# Altium footprint library PcbLib3.PcbLib: 58 footprints (part 3 of 4)
Each footprint in its own frame and in the unit in brackets; x right, y up, seen from the top. Pads: shape width x height; smd on the part's side, far side on the other; paste and mask are expansions set on the pad; w line width, h text height; cw(c..) or ccw(c..) is an arc to the next point about the centre after c.
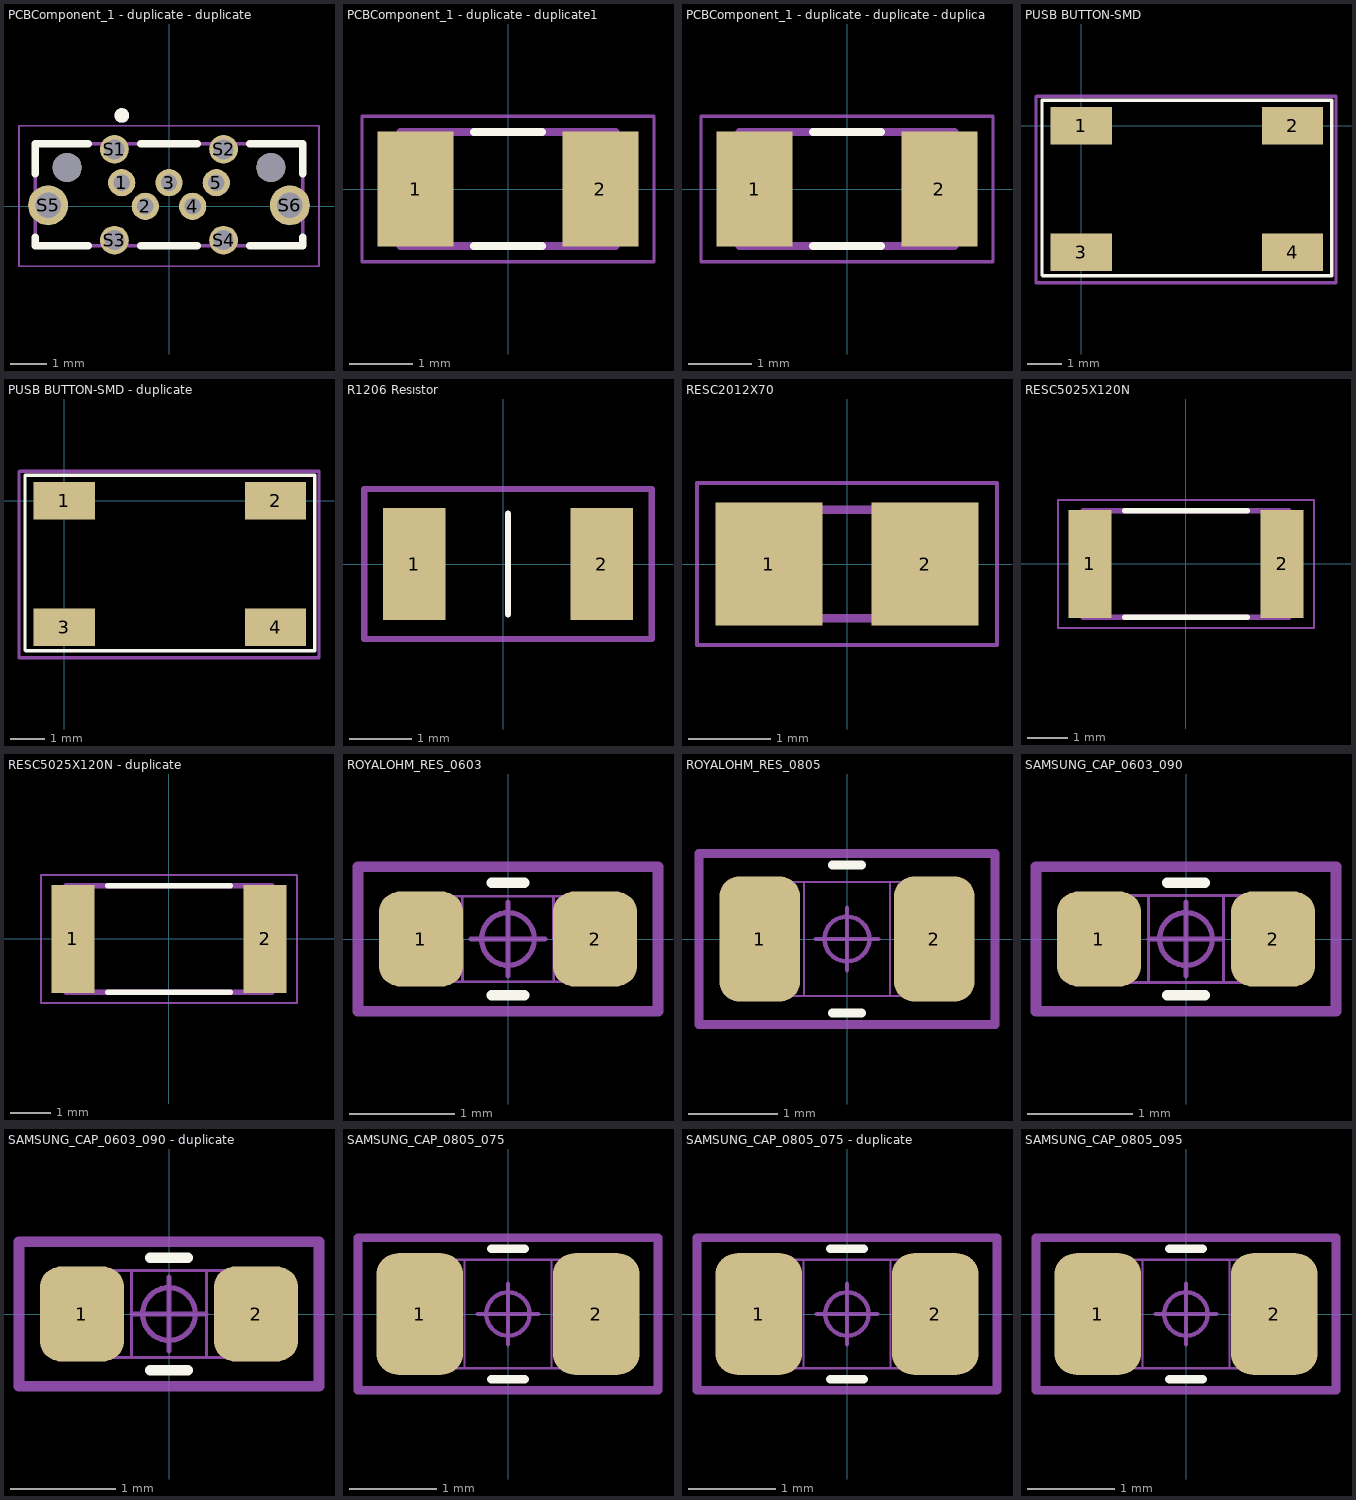
[diagram p2: the footprints below, top view; thin cyan lines are the x and y axes]

## PCBComponent_1 - duplicate - duplicate [mm]
pads (13):
  round 0.75 hole 0.45: 1(-1.3,0.65) 2(-0.65,0) 3(0,0.65) 4(0.65,0) 5(1.3,0.65)
  round 0.79 hole 0.55: S1(-1.5,1.57) S2(1.5,1.57) S3(-1.5,-0.93) S4(1.5,-0.93)
  round 1.1 hole 0.7: S5(-3.325,0.03) S6(3.325,0.03)
  round 0.8 hole 0.8 unplated: ""(-2.8,1.07) ""(2.8,1.07)
Top Overlay:
  circle w0.2: c-1.3,2.5 r0.1
  lines w0.2: -3.675,-0.84 -3.675,-1.08 -2.215,-1.08 ; -3.675,0.9 -3.675,1.72 -2.215,1.72 ; -0.785,-1.08 0.785,-1.08 ; -0.785,1.72 0.785,1.72 ; 2.215,-1.08 3.675,-1.08 3.675,-0.84 ; 2.215,1.72 3.675,1.72 3.675,0.9
Mechanical 13:
  circle w0.2: c-1.3,2.5 r0.1
  lines w0.1: -3.675,-1.08 -3.675,1.72 3.675,1.72 3.675,-1.08 -3.675,-1.08
Mechanical 15:
  lines w0.05: -4.125,-1.645 4.125,-1.645 4.125,2.215 -4.125,2.215 -4.125,-1.645
3D body "step_temp.STEP": height 7.23, standoff -1.3, extent -3.675,-1.4 3.675,1.4

## PCBComponent_1 - duplicate - duplicate1 [mm]
pads (2):
  rect 1.2x1.82 smd: 1(-1.46,0) 2(1.46,0)
Top Overlay:
  lines w0.127: -0.54,-0.9 0.54,-0.9 ; -0.54,0.9 0.54,0.9
Mechanical 13:
  lines w0.127: -1.7,-0.9 1.7,-0.9 1.7,0.9 -1.7,0.9 -1.7,-0.9
Mechanical 15:
  lines w0.05: -2.308,-1.15 2.308,-1.15 2.308,1.15 -2.308,1.15 -2.308,-1.15
3D body "step_temp.STEP": height 1.8, standoff 0, extent -1.6,-0.8 1.6,0.8

## PCBComponent_1 - duplicate - duplicate - duplicate [mm]
pads (2):
  rect 1.2x1.82 smd: 1(-1.46,0) 2(1.46,0)
Top Overlay:
  lines w0.127: -0.54,-0.9 0.54,-0.9 ; -0.54,0.9 0.54,0.9
Mechanical 13:
  lines w0.127: -1.7,-0.9 1.7,-0.9 1.7,0.9 -1.7,0.9 -1.7,-0.9
Mechanical 15:
  lines w0.05: -2.308,-1.15 2.308,-1.15 2.308,1.15 -2.308,1.15 -2.308,-1.15
3D body "step_temp.STEP": height 1.8, standoff 0, extent -1.6,-0.8 1.6,0.8

## PUSB BUTTON-SMD [mm]
pads (4):
  rect 1.8x1.1 smd mask+0.05: 1(0,0) 2(6.2,0) 3(0,-3.7) 4(6.2,-3.7)
Top Overlay:
  lines w0.1: -1.15,-4.375 -1.15,0.75 7.35,0.75 7.35,-4.4 -1.125,-4.4
Top Component Center:
  lines w0.1: -1.325,-4.6 7.475,-4.6 7.475,0.875 -1.3,0.875 -1.325,0.85 -1.325,-4.6
3D body "User Library-4x4_SMD_Switch.step": height 1.5, standoff 0, extent -0.2,-4.5 6.2,0.7

## PUSB BUTTON-SMD - duplicate [mm]
pads (4):
  rect 1.8x1.1 smd mask+0.05: 1(0,0) 2(6.2,0) 3(0,-3.7) 4(6.2,-3.7)
Top Overlay:
  lines w0.1: -1.15,-4.375 -1.15,0.75 7.35,0.75 7.35,-4.4 -1.125,-4.4
Top Component Center:
  lines w0.1: -1.325,-4.6 7.475,-4.6 7.475,0.875 -1.3,0.875 -1.325,0.85 -1.325,-4.6
3D body "User Library-4x4_SMD_Switch.step": height 1.5, standoff 0, extent -0.2,-4.5 6.2,0.7

## R1206 Resıstor [mm]
pads (2):
  rect 1x1.8 smd mask+0.05: 1(-1.425,0) 2(1.575,0)
Top Overlay:
  lines w0.1: 0.075,-0.805 0.075,0.805
Top Component Center:
  lines w0.1: -2.225,-1.2 -2.225,1.2 2.375,1.2 2.375,-1.2 -2.225,-1.2
3D body "1206RES.step": height 0.55, standoff 0, extent -1.525,-0.805 1.675,0.805

## RESC2012X70 [mm]
pads (2):
  rect 1.3x1.5 smd: 1(-0.95,0) 2(0.95,0)
Mechanical 13:
  lines w0.102: -0.381,0.66 0.381,0.66 ; -0.356,-0.66 0.381,-0.66
Mechanical 15:
  lines w0.051: -1.823,-0.983 1.823,-0.983 1.823,0.983 -1.823,0.983 -1.823,-0.983
3D body "step_temp.STEP": height 0.5, standoff 0, extent -0.625,-1 0.625,1

## RESC5025X120N [mm]
pads (2):
  rect 1.07x2.67 smd: 1(-2.38,0) 2(2.38,0)
Top Overlay:
  lines w0.127: -1.52,-1.32 1.52,-1.32 ; -1.52,1.32 1.52,1.32
Mechanical 13:
  lines w0.127: -2.55,-1.32 -2.55,1.32 2.55,1.32 2.55,-1.32 -2.55,-1.32
Mechanical 15:
  lines w0.05: -3.165,-1.585 -3.165,1.585 3.165,1.585 3.165,-1.585 -3.165,-1.585
3D body "step_temp.STEP": height 1.2, standoff 0, extent -2.5,-1.25 2.5,1.25

## RESC5025X120N - duplicate [mm]
pads (2):
  rect 1.07x2.67 smd: 1(-2.38,0) 2(2.38,0)
Top Overlay:
  lines w0.127: -1.52,-1.32 1.52,-1.32 ; -1.52,1.32 1.52,1.32
Mechanical 13:
  lines w0.127: -2.55,-1.32 -2.55,1.32 2.55,1.32 2.55,-1.32 -2.55,-1.32
Mechanical 15:
  lines w0.05: -3.165,-1.585 -3.165,1.585 3.165,1.585 3.165,-1.585 -3.165,-1.585
3D body "step_temp.STEP": height 1.2, standoff 0, extent -2.5,-1.25 2.5,1.25

## ROYALOHM_RES_0603 [mm]
pads (2):
  rrect50% 0.8x0.9 smd paste+0 mask+0.04: 1(-0.825,0) 2(0.825,0)
Top Overlay:
  lines w0.1: -0.152,-0.533 0.152,-0.533 ; -0.152,0.533 0.152,0.533
Mechanical 13:
  lines w0.025: -0.432,0.406 -0.432,-0.394 ; 0.432,0.394 0.432,-0.406 ; -0.813,-0.406 -0.813,0.406 0.813,0.406 0.813,-0.406 -0.813,-0.406
Mechanical 15:
  circle w0.05: c0,0 r0.25
  lines w0.05: -0.35,0 0.35,0 ; 0,-0.35 0,0.35
  lines w0.1: -1.422,-0.686 1.422,-0.686 1.422,0.686 -1.422,0.686 -1.422,-0.686
3D body "RES 0603.STEP": height 0.45, standoff 0, extent -0.8,-0.4 0.8,0.4

## ROYALOHM_RES_0805 [mm]
pads (2):
  rrect50% 0.9x1.397 smd paste+0 mask+0.04: 1(-0.975,0) 2(0.975,0)
Top Overlay:
  lines w0.1: -0.162,-0.826 0.162,-0.826 ; -0.162,0.826 0.162,0.826
Mechanical 13:
  lines w0.025: -0.48,-0.635 -0.48,0.635 ; 0.48,-0.635 0.48,0.635 ; -1.016,-0.635 -1.016,0.635 1.016,0.635 1.016,-0.635 -1.016,-0.635
Mechanical 15:
  circle w0.05: c0,0 r0.25
  lines w0.05: -0.35,0 0.35,0 ; 0,-0.35 0,0.35
  lines w0.1: -1.65,-0.953 1.65,-0.953 1.65,0.953 -1.65,0.953 -1.65,-0.953
3D body "RES 0805.STEP": height 0.6, standoff 0, extent -1,-0.625 1,0.625

## SAMSUNG_CAP_0603_090 [mm]
pads (2):
  rrect50% 0.8x0.9 smd paste+0 mask+0.04: 1(-0.825,0) 2(0.825,0)
Top Overlay:
  lines w0.1: -0.178,-0.533 0.178,-0.533 ; -0.178,0.533 0.178,0.533
Mechanical 13:
  lines w0.025: -0.8,-0.412 0.8,-0.412 ; -0.8,-0.401 -0.8,0.412 0.8,0.412 0.8,-0.401 ; -0.356,-0.406 -0.356,0.406 ; 0.356,-0.406 0.356,0.406
Mechanical 15:
  circle w0.05: c0,0 r0.25
  lines w0.05: -0.35,0 0.35,0 ; 0,-0.35 0,0.35
  lines w0.1: -1.422,-0.686 -1.422,0.686 1.422,0.686 1.422,-0.686 -1.422,-0.686
3D body "CAP 0603.STEP": height 0.81, standoff -0.01, extent -0.8,-0.412 0.8,0.412

## SAMSUNG_CAP_0603_090 - duplicate [mm]
pads (2):
  rrect50% 0.8x0.9 smd paste+0 mask+0.04: 1(-0.825,0) 2(0.825,0)
Top Overlay:
  lines w0.1: -0.178,-0.533 0.178,-0.533 ; -0.178,0.533 0.178,0.533
Mechanical 13:
  lines w0.025: -0.8,-0.412 0.8,-0.412 ; -0.8,-0.401 -0.8,0.412 0.8,0.412 0.8,-0.401 ; -0.356,-0.406 -0.356,0.406 ; 0.356,-0.406 0.356,0.406
Mechanical 15:
  circle w0.05: c0,0 r0.25
  lines w0.05: -0.35,0 0.35,0 ; 0,-0.35 0,0.35
  lines w0.1: -1.422,-0.686 1.422,-0.686 1.422,0.686 -1.422,0.686 -1.422,-0.686
3D body "CAP 0603.STEP": height 0.81, standoff -0.01, extent -0.8,-0.412 0.8,0.412

## SAMSUNG_CAP_0805_075 [mm]
pads (2):
  rrect50% 1x1.4 smd paste+0 mask+0.04: 1(-1.016,0) 2(1.016,0)
Top Overlay:
  lines w0.1: -0.192,-0.752 0.192,-0.752 ; -0.192,0.752 0.192,0.752
Mechanical 13:
  lines w0.025: -1,-0.625 -1,0.625 ; -1,-0.625 1,-0.625 ; -1,-0.625 -0.5,-0.625 -0.5,0.625 -1,0.625 ; -1,-0.625 -1,0.625 ; -1,0.625 1,0.625 ; 1,-0.625 1,0.625 ; 1,-0.625 1,0.625 ; 1,-0.625 0.5,-0.625 0.5,0.625 1,0.625
Mechanical 15:
  circle w0.05: c0,0 r0.25
  lines w0.05: -0.35,0 0.35,0 ; 0,-0.35 0,0.35
  lines w0.1: -1.727,-0.879 1.727,-0.879 1.727,0.879 -1.727,0.879 -1.727,-0.879
3D body "CAP_0805_075.step": height 0.76, standoff -0.01, extent -1,-0.639 1,0.635

## SAMSUNG_CAP_0805_075 - duplicate [mm]
pads (2):
  rrect50% 1x1.4 smd paste+0 mask+0.04: 1(-1.016,0) 2(1.016,0)
Top Overlay:
  lines w0.1: -0.192,-0.752 0.192,-0.752 ; -0.192,0.752 0.192,0.752
Mechanical 13:
  lines w0.025: -1,-0.625 -1,0.625 ; -1,-0.625 -0.5,-0.625 -0.5,0.625 -1,0.625 ; -1,-0.625 1,-0.625 ; -1,-0.625 -1,0.625 ; -1,0.625 1,0.625 ; 1,-0.625 0.5,-0.625 0.5,0.625 1,0.625 ; 1,-0.625 1,0.625 ; 1,-0.625 1,0.625
Mechanical 15:
  circle w0.05: c0,0 r0.25
  lines w0.05: -0.35,0 0.35,0 ; 0,-0.35 0,0.35
  lines w0.1: -1.727,-0.879 -1.727,0.879 1.727,0.879 1.727,-0.879 -1.727,-0.879
3D body "CAP_0805_075.step": height 0.76, standoff -0.01, extent -1,-0.639 1,0.635

## SAMSUNG_CAP_0805_095 [mm]
pads (2):
  rrect50% 1x1.4 smd paste+0 mask+0.04: 1(-1.016,0) 2(1.016,0)
Top Overlay:
  lines w0.1: -0.192,-0.752 0.192,-0.752 ; -0.192,0.752 0.192,0.752
Mechanical 13:
  lines w0.025: -1,-0.625 -1,0.625 ; -1,-0.625 -0.5,-0.625 -0.5,0.625 -1,0.625 ; -1,-0.625 1,-0.625 ; -1,-0.625 -1,0.625 ; -1,0.625 1,0.625 ; 1,-0.625 0.5,-0.625 0.5,0.625 1,0.625 ; 1,-0.625 1,0.625 ; 1,-0.625 1,0.625
Mechanical 15:
  circle w0.05: c0,0 r0.25
  lines w0.05: -0.35,0 0.35,0 ; 0,-0.35 0,0.35
  lines w0.1: -1.727,-0.879 -1.727,0.879 1.727,0.879 1.727,-0.879 -1.727,-0.879
3D body "CAP_0805_095.step": height 0.96, standoff -0.01, extent -1,-0.635 1,0.639